# Altium footprint library MCU089B.PcbLib: 51 footprints (part 3 of 4)
Each footprint in its own frame and in the unit in brackets; x right, y up, seen from the top. Pads: shape width x height; smd on the part's side, far side on the other; paste and mask are expansions set on the pad; w line width, h text height; cw(c..) or ccw(c..) is an arc to the next point about the centre after c.
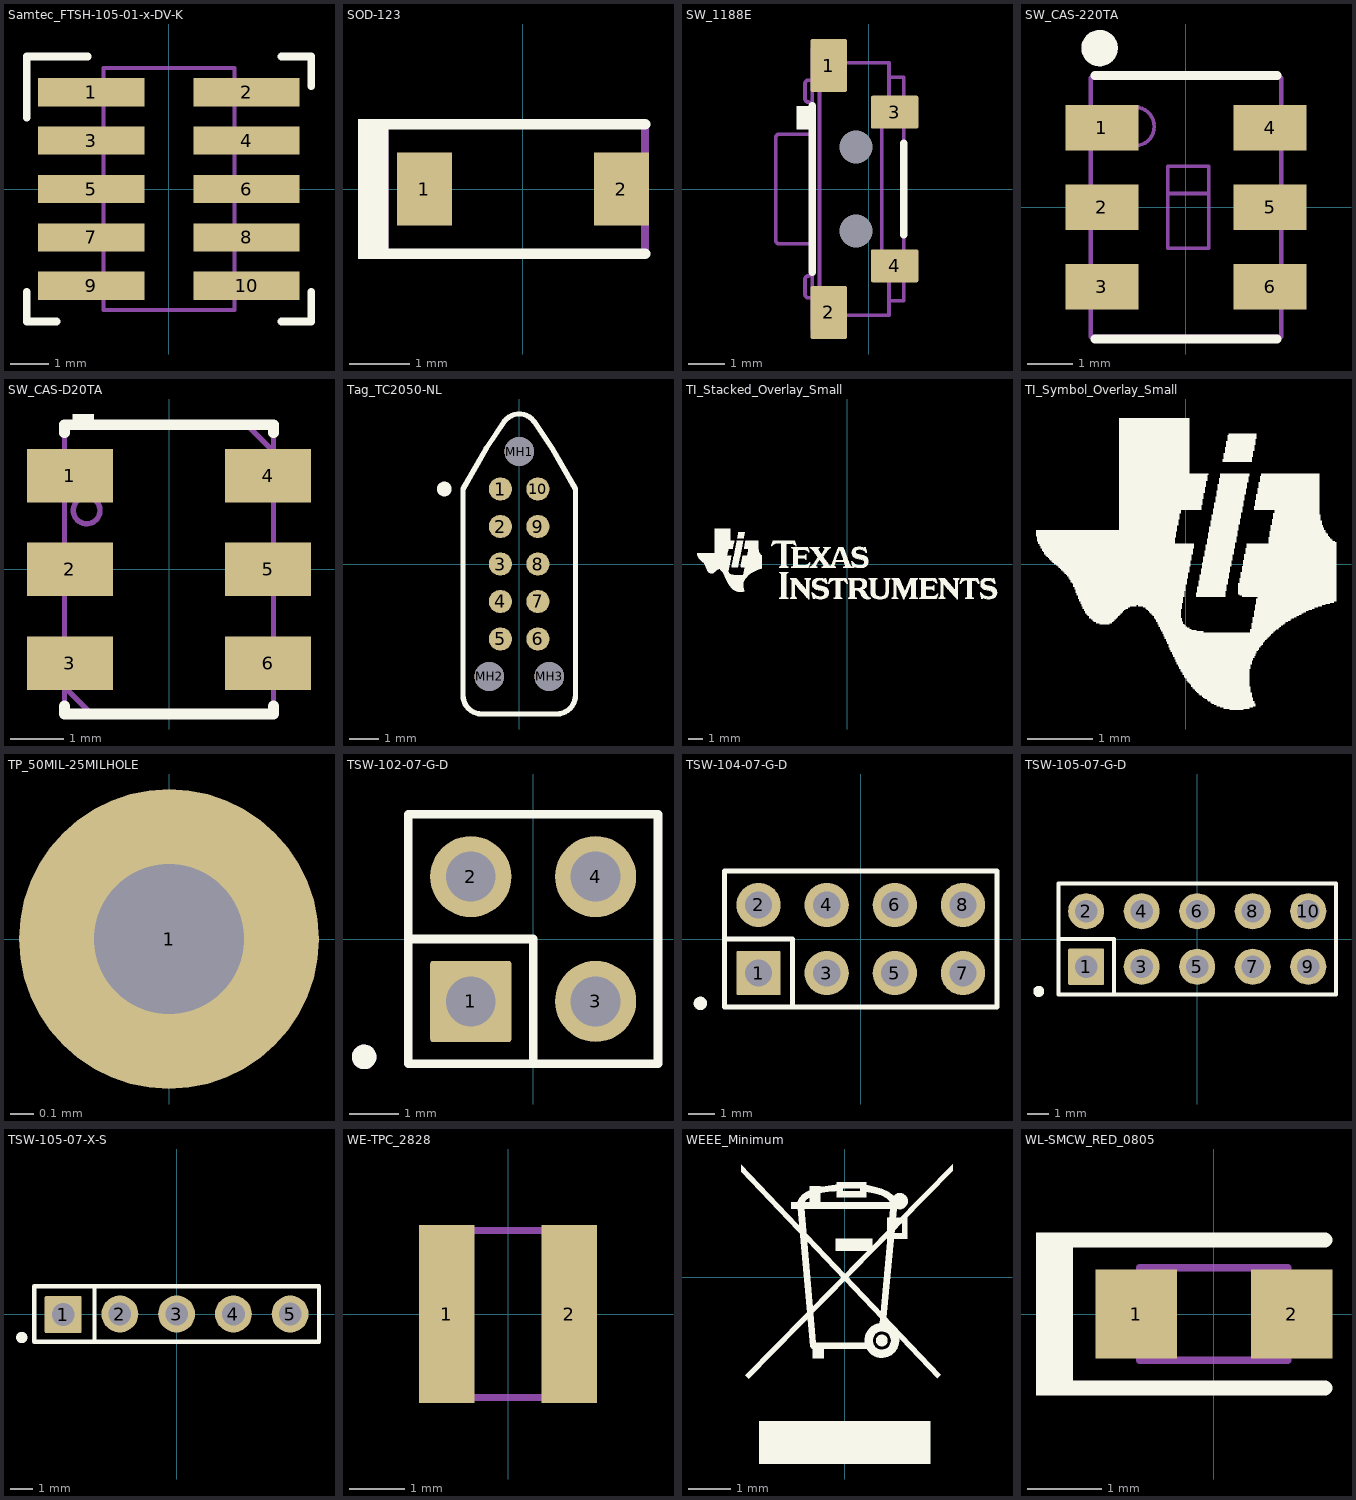
[diagram p2: the footprints below, top view; thin cyan lines are the x and y axes]

## Samtec_FTSH-105-01-x-DV-K [mm] "Header(Shrouded), 1.27mm, 5x2, SMT"
height 6.25
pads (10):
  rect 2.79x0.74 smd: 1(-2.035,2.54) 2(2.035,2.54) 3(-2.035,1.27) 4(2.035,1.27) 5(-2.035,0) 6(2.035,0) 7(-2.035,-1.27) 8(2.035,-1.27) 9(-2.035,-2.54) 10(2.035,-2.54)
Top Overlay:
  lines w0.2: -3.73,-2.695 -3.73,-3.475 -2.95,-3.475 ; -3.73,1.875 -3.73,3.475 -2.13,3.475 ; 2.95,-3.475 3.73,-3.475 3.73,-2.695 ; 2.95,3.475 3.73,3.475 3.73,2.695
Mechanical 5:
  lines w0.1: -1.714,-2.743 -2.921,-2.743 -2.921,-2.337 -1.714,-2.337 ; -1.714,-1.473 -2.921,-1.473 -2.921,-1.067 -1.714,-1.067 ; -1.714,-0.203 -2.921,-0.203 -2.921,0.203 -1.714,0.203 ; -1.714,1.067 -2.921,1.067 -2.921,1.473 -1.714,1.473 ; -1.714,2.337 -2.921,2.337 -2.921,2.743 -1.714,2.743 ; 1.714,-2.743 2.921,-2.743 2.921,-2.337 1.714,-2.337 ; 1.714,-1.473 2.921,-1.473 2.921,-1.067 1.714,-1.067 ; 1.714,-0.203 2.921,-0.203 2.921,0.203 1.714,0.203 ; 1.714,1.067 2.921,1.067 2.921,1.473 1.714,1.473 ; 1.714,2.337 2.921,2.337 2.921,2.743 1.714,2.743 ; -1.714,-3.175 1.714,-3.175 1.714,3.175 -1.714,3.175 -1.714,-3.175
  text ".Designator" at -0.508,1.524 h1.02
3D body "FTSH-105-01-x-DV-K.stp": height 6.13, standoff 0.01, extent -2.921,-3.175 2.921,3.175

## SOD-123 [mm] "On Semi recommended land pattern"
height 1.35
pads (2):
  rect 0.915x1.22 smd: 1(-1.637,0) 2(1.637,0)
Top Overlay:
  rectangle: -2.743,-1.168 -2.235,1.168
  lines w0.178: -2.413,-1.079 2.032,-1.079 ; -2.413,1.079 2.032,1.079
Mechanical 5:
  rectangle: -2.743,-1.168 -2.235,1.168
  lines w0.127: -2.413,-1.079 2.032,-1.079 2.032,1.079 -2.413,1.079
  text ".Designator" at -1.956,-0.33 h0.76
3D body "SOD-123.stp": height 1.35, standoff 0, extent -1.932,-0.9 1.932,0.9

## SW_1188E [mm] "SMD, 4-Leads, Body 7.8x3.5mm"
height 3.5
pads (6):
  rrect10% 1x1.45 smd: 1(-1.1,3.375) 2(-1.1,-3.375)
  rrect11% 1.3x0.9 smd: 3(0.7,2.1) 4(0.7,-2.1)
  round 0 hole 0.9 unplated mask+0.051: ""(-0.35,-1.15) ""(-0.35,1.15)
Top Overlay:
  region: -1.625,2.275 -1.975,2.275 -1.975,1.625 -1.625,1.625
  lines w0.2: -1.55,-2.279 -1.55,2.279 ; 0.95,-1.25 0.95,1.25
Mechanical 5:
  lines w0.1: -1.55,-2.975 -1.65,-2.975 cw(c-1.65,-2.875) -1.75,-2.875 -1.75,-2.475 cw(c-1.65,-2.475) -1.65,-2.375 -1.55,-2.375 ; -1.55,-1.5 -2.45,-1.5 cw(c-2.45,-1.4) -2.55,-1.4 -2.55,1.4 cw(c-2.45,1.4) -2.45,1.5 -1.55,1.5 ; -1.55,2.375 -1.65,2.375 cw(c-1.65,2.475) -1.75,2.475 -1.75,2.875 cw(c-1.65,2.875) -1.65,2.975 -1.55,2.975 ; 0.55,-3.05 0.95,-3.05 0.95,-1.8 ; 0.55,3.05 0.95,3.05 0.95,1.8 ; 0.95,-2.4 1.05,-2.4 1.05,-1.8 0.95,-1.8 ; 0.95,2.4 1.05,2.4 1.05,1.8 0.95,1.8 ; -1.55,-3.45 -1.55,-3.55 -1.55,-3.8 ccw(c-1.45,-3.8) -1.45,-3.9 -0.9,-3.9 -0.9,-3.7 -1.25,-3.7 cw(c-1.25,-3.6) -1.35,-3.6 -1.35,-3.55 -1.35,-3.45 ; -1.55,-3.45 -1.35,-3.45 ; -1.55,-3.45 -1.55,-3.35 -1.55,3.35 -1.55,3.45 ; -1.55,3.45 -1.35,3.45 ; -1.55,3.45 -1.55,3.55 -1.55,3.8 cw(c-1.45,3.8) -1.45,3.9 -0.9,3.9 -0.9,3.7 -1.25,3.7 ccw(c-1.25,3.6) -1.35,3.6 -1.35,3.55 -1.35,3.45 ; -1.35,-3.45 -1.35,-3.35 ; -1.35,-3.45 -1.35,-3.35 ; -1.35,-3.45 0.55,-3.45 0.55,-3.35 0.55,-2.4 ; -1.35,-3.35 -1.35,3.35 ; -1.35,-3.35 -1.35,3.35 ; -1.35,3.35 -1.35,3.45 ; -1.35,3.35 -1.35,3.45 ; -1.35,3.45 0.55,3.45 0.55,3.35 0.55,2.4 ; 0.35,-1.8 0.35,-2.4 0.55,-2.4 ; 0.35,-1.8 0.55,-1.8 ; 0.35,-1.8 0.35,1.8 ; 0.35,1.8 0.35,2.4 0.55,2.4 ; 0.35,1.8 0.55,1.8 ; 0.55,-2.4 0.55,-1.8 ; 0.55,-1.8 0.95,-1.8 ; 0.55,1.8 0.55,2.4 ; 0.55,1.8 0.95,1.8 ; 0.95,-1.8 0.95,1.8
  text ".Designator" at -1.25,-0.2 h0.8
3D body: height 3.5, standoff -0.7, extent -2.55,-3.9 1.05,3.9

## SW_CAS-220TA [mm] "COPAL ELECTRONICS"
height 2.5
pads (6):
  rect 1.6x1 smd: 1(-1.85,1.75) 2(-1.85,0) 3(-1.85,-1.75) 4(1.85,1.75) 5(1.85,0) 6(1.85,-1.75)
Top Overlay:
  circle w0.4: c-1.9,3.5 r0.2
  lines w0.2: -2,-2.9 2,-2.9 ; -2,2.9 2,2.9
Mechanical 5:
  circle w0.08: c-1.125,1.776 r0.426
  lines w0.08: -0.4,0.3 0.5,0.3 ; -0.4,-0.9 0.5,-0.9 0.5,0.9 0,0.9 -0.4,0.9 -0.4,-0.9
  lines w0.1: -2.1,-2.85 -2.1,2.85 2.1,2.85 2.1,-2.85 -2.1,-2.85
  text ".Designator" at -1.5,-2.1 h0.7
3D body: height 2.5, standoff 2.4, extent -1.55,1.351 -0.7,2.201
3D body: height 2.5, standoff 0, extent -2.099,-2.849 2.099,2.849
3D body: height 2.51, standoff 2.4, extent -0.399,0.301 0.499,0.899
3D body: height 2.51, standoff 2.4, extent -0.399,-0.899 0.499,0.299

## SW_CAS-D20TA [mm] "SMD, 6-Leads, Body 5.4x3.9mm, Pitch 1.75mm"
height 2.5
pads (6):
  rect 1.6x1 smd: 1(-1.85,1.75) 2(-1.85,0) 3(-1.85,-1.75) 4(1.85,1.75) 5(1.85,0) 6(1.85,-1.75)
Top Overlay:
  rectangle: -1.8,2.7 -1.4,2.9
  lines w0.2: -1.95,-2.55 -1.95,-2.7 -1.45,-2.7 1.95,-2.7 1.95,-2.55 ; -1.95,2.55 -1.95,2.7 1.45,2.7 1.95,2.7 1.95,2.55
Mechanical 5:
  circle w0.1: c-1.538,1.1 r0.25
  lines w0.1: -1.95,-2.05 -2.1,-2.05 -2.1,-1.45 -1.95,-1.45 ; -1.95,-0.3 -2.1,-0.3 -2.1,0.3 -1.95,0.3 ; -1.95,1.45 -2.1,1.45 -2.1,2.05 -1.95,2.05 ; 1.95,-2.05 2.1,-2.05 2.1,-1.45 1.95,-1.45 ; 1.95,-0.3 2.1,-0.3 2.1,0.3 1.95,0.3 ; 1.95,1.45 2.1,1.45 2.1,2.05 1.95,2.05 ; -1.95,-2.2 -1.95,2.7 1.45,2.7 ; -1.95,-2.2 -1.45,-2.7 ; -1.95,-2.2 -1.95,-2.7 -1.45,-2.7 ; -1.45,-2.7 1.95,-2.7 1.95,2.2 ; 1.45,2.7 1.95,2.2 ; 1.45,2.7 1.95,2.7 1.95,2.2
  text ".Designator" at -1.8,-0.4 h1
3D body: height 2.5, standoff 0, extent -2.1,-2.7 2.1,2.7

## Tag_TC2050-NL [mil] "Footprint for Tag-Connect TC2050 No-Legs cables"
pads (13):
  round 31 smd paste-15.75: 1(-25,100) 2(-25,50) 3(-25,0) 4(-25,-50) 5(-25,-100) 6(25,-100) 7(25,-50) 8(25,0) 9(25,50) 10(25,100)
  round 39 hole 39 unplated: MH1(0,150) MH2(-40,-150) MH3(40,-150)
Top Overlay:
  circle w9.84: c-100,100 r4.92
  lines w7: -43.85,154.23 -75,100 -75,-130 -75,-175 ccw(c-50,-175) -50,-200 50,-200 ccw(c50,-175) 75,-175 75,-125 75,31.25 75,100 43.85,154.23 20,190 ccw(c0,175) -20,190 -42.31,156.54

## TI_Stacked_Overlay_Small [mm]
Top Overlay:
  drawing of 18 lines, arcs and shapes, not listed

## TI_Symbol_Overlay_Small [mm]
Top Overlay:
  drawing of 3 lines, arcs and shapes, not listed

## TP_50MIL-25MILHOLE [mm]
pads (1):
  round 1.27 hole 0.635: 1(0,0)

## TSW-102-07-G-D [mm] "Samtec 100mil, 2x2, 230 mil above insulator"
height 8.382
pads (4):
  rrect6% 1.65x1.65 hole 1.016: 1(-1.27,-1.27)
  round 1.65 hole 1.016: 2(-1.27,1.27) 3(1.27,-1.27) 4(1.27,1.27)
Top Overlay:
  circle w0.25: c-3.44,-2.4 r0.125
  lines w0.178: -2.54,0 0,0 0,-2.54 ; -2.54,-2.54 2.54,-2.54 2.54,2.54 -2.54,2.54 -2.54,-2.54
Mechanical 5:
  circle w0.25: c-3.44,-2.4 r0.125
  lines w0.127: -2.54,-2.54 -2.54,2.54 2.54,2.54 2.54,-2.54 -2.54,-2.54
  text ".Designator" at -1.524,-0.508 h1.02
3D body "SamtecTSW-07_2x2.stp": height 8.38, standoff -2.54, extent -2.54,-2.54 2.54,2.54

## TSW-104-07-G-D [mm] "Samtec 100mil, 2x4, 230 mil above insulator"
height 8.382
pads (8):
  rrect6% 1.65x1.65 hole 1.016: 1(-3.81,-1.27)
  round 1.65 hole 1.016: 2(-3.81,1.27) 3(-1.27,-1.27) 4(-1.27,1.27) 5(1.27,-1.27) 6(1.27,1.27) 7(3.81,-1.27) 8(3.81,1.27)
Top Overlay:
  circle w0.25: c-5.98,-2.4 r0.125
  lines w0.178: -5.08,0 -2.54,0 -2.54,-2.54 ; -5.08,-2.54 5.08,-2.54 5.08,2.54 -5.08,2.54 -5.08,-2.54
Mechanical 5:
  rectangle: -4.318,-1.778 -3.302,-0.762
  lines w0.127: -5.08,-2.54 -5.08,2.54 5.08,2.54 5.08,-2.54 -5.08,-2.54
  text ".Designator" at -1.524,-0.508 h1.02
3D body "SamtecTSW-07_4x2.stp": height 8.38, standoff -2.54, extent -5.08,-2.54 5.08,2.54

## TSW-105-07-G-D [mm] "Samtec 100mil, 2x5, 230 mil above insulator"
height 8.382
pads (10):
  rrect6% 1.65x1.65 hole 1.016: 1(-5.08,-1.27)
  round 1.65 hole 1.016: 2(-5.08,1.27) 3(-2.54,-1.27) 4(-2.54,1.27) 5(0,-1.27) 6(0,1.27) 7(2.54,-1.27) 8(2.54,1.27) 9(5.08,-1.27) 10(5.08,1.27)
Top Overlay:
  circle w0.25: c-7.25,-2.4 r0.125
  lines w0.178: -6.35,0 -3.81,0 -3.81,-2.54 ; -6.35,-2.54 -6.35,2.54 6.35,2.54 6.35,-2.54 -6.35,-2.54
Mechanical 5:
  rectangle: -5.588,-1.778 -4.572,-0.762
  lines w0.127: -6.35,-2.54 6.35,-2.54 6.35,2.54 -6.35,2.54 -6.35,-2.54
  text ".Designator" at -1.524,-0.508 h1.02
3D body "SamtecTSW-07_5x2.stp": height 8.38, standoff -2.54, extent -6.35,-2.54 6.35,2.54

## TSW-105-07-X-S [mm] "Samtec 100mil, 1x5, 230 mil above insulator"
height 8.382
pads (5):
  rrect6% 1.65x1.65 hole 1.016: 1(-5.08,-0.025)
  round 1.65 hole 1.016: 2(-2.54,0) 3(0,0) 4(2.54,0) 5(5.08,0)
Top Overlay:
  circle w0.25: c-6.93,-1.05 r0.125
  lines w0.178: -3.683,-1.25 -3.683,1.25
  lines w0.2: -6.38,-1.25 -6.38,1.25 6.37,1.25 6.37,-1.25 -6.38,-1.25
Mechanical 5:
  rectangle: -5.588,-0.508 -4.572,0.508
  lines w0.127: -6.38,-1.25 6.37,-1.25 6.37,1.25 -6.38,1.25 -6.38,-1.25
  text ".Designator" at -0.791,-0.584 h1.02
3D body "SamtecTSW-07_5x1.stp": height 8.38, standoff -2.54, extent -6.35,-1.27 6.35,1.27

## WE-TPC_2828 [mm] "WURTH"
height 3
pads (2):
  rect 1x3.2 smd: 1(-1.1,0) 2(1.1,0)
Mechanical 5:
  lines w0.127: -1.5,-0.621 -0.621,-1.5 0.621,-1.5 1.5,-0.621 1.5,0.621 0.621,1.5 -0.621,1.5 -1.5,0.621 -1.5,-0.621
  text ".Designator" at -1.15,-0.325 h0.64
3D body "WE-TPC_2828.stp": height 3, standoff 0, extent -1.5,-1.5 1.5,1.5

## WEEE_Minimum [mm] "WEEElie bin"
Top Overlay:
  drawing of 23 lines, arcs and shapes, not listed

## WL-SMCW_RED_0805 [mm] "SMD, 2-Leads, Body 1.6x0.8mm"
height 0.8
pads (2):
  rect 1.1x1.2 smd: 1(-1.05,0) 2(1.05,0)
Top Overlay:
  rectangle: -2.401,-1.1 -2.001,1.1
  lines w0.2: 1.5,-1 -2,-1 -2,1 1.5,1
Mechanical 5:
  lines w0.1: -1,-0.625 1,-0.625 1,-0.2 cw(c1,0) 1,0.2 1,0.625 -1,0.625 -1,0.425 -1,0.35 -1,0.2 cw(c-1,0) -1,-0.2 -1,-0.35 -1,-0.425 -1,-0.625
  text ".Designator" at -0.7,-0.4 h0.4
3D body "WL-SMCW_0805.stp": height 0.7, standoff 0, extent -1,-0.625 1,0.625